# EAGLE library part L293D (library RCboat)
L293D Motor Controller for DC motor
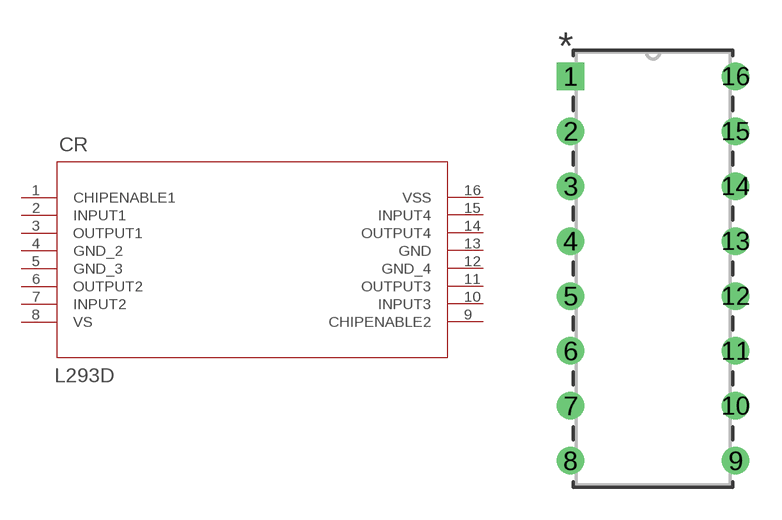
[diagram p0: symbol with the pads of POWERDIP-16_STM; footprint POWERDIP-16_STM]

Designator prefix CR

## L293D (COPYRIGHT: Copyright (C) 2021 Ultra Librarian. All rights reserved.; MANUFACTURER_PART_NUMBER: L293D; MFR_NAME: STMicroelectronics)  [POWERDIP-16_STM]
1  CHIPENABLE1  out
2  INPUT1  in
3  OUTPUT1  out
4  GND_2  pas
5  GND_3  pas
6  OUTPUT2  out
7  INPUT2  in
8  VS  pwr
9  CHIPENABLE2  out
10  INPUT3  in
11  OUTPUT3  out
12  GND_4  pas
13  GND  pas
14  OUTPUT4  out
15  INPUT4  in
16  VSS  pwr

## Footprint POWERDIP-16_STM (pad centres in mm)
drill 0.762 pad 1.27 square: 1 0,0
drill 0.762 pad 1.27: 2 0,-2.54; 3 0,-5.08; 4 0,-7.62; 5 0,-10.16; 6 0,-12.7; 7 0,-15.24; 8 0,-17.78; 9 7.62,-17.78; 10 7.62,-15.24; 11 7.62,-12.7; 12 7.62,-10.16; 13 7.62,-7.62; 14 7.62,-5.08; 15 7.62,-2.54; 16 7.62,0